# Altium footprint library ind_hc3.PcbLib: 1 footprints
Each footprint in its own frame and in the unit in brackets; x right, y up, seen from the top. Pads: shape width x height; smd on the part's side, far side on the other; paste and mask are expansions set on the pad; w line width, h text height; cw(c..) or ccw(c..) is an arc to the next point about the centre after c.
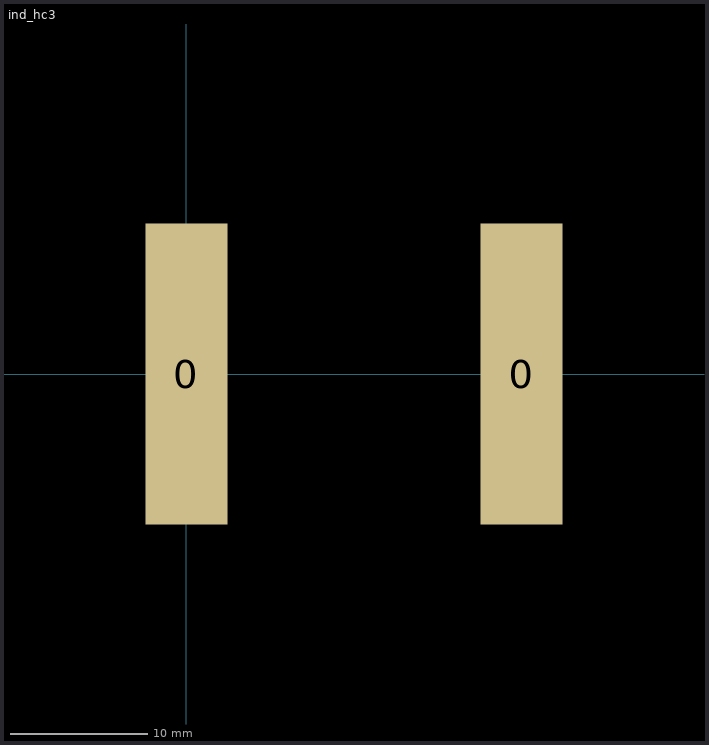
[diagram p0: the footprint, top view; thin cyan lines are the x and y axes]

## ind_hc3 [mm] "Cooper-Eaton HC3 Indcutors"
height 18
pads (2):
  rect 6x22 all layers, no hole: 0(0,0) 0(24.5,0)